# EAGLE library part EDGE_CON_6X (library Bits_library_eagle 9x)
0.5mm Pitch Connectors For FPC/FFC Source: Data sheet <http://www.hirose.co.jp/cataloge_hp/e58605370.pdf>
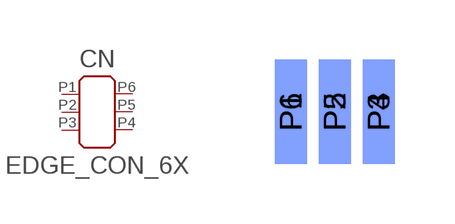
[diagram p26: symbol with the pads of 6P_EDGE; footprint 6P_EDGE]

Designator prefix CN

## EDGE_CON_6X  [6P_EDGE]
P1  P1
P2  P2
P3  P3
P4  P4
P5  P5
P6  P6

## Footprint 6P_EDGE (pad centres in mm)
smd 0.8 x 2.6: P1 -1.1,0; P2 0,0; P3 1.1,0
smd 0.8 x 2.6 bottom: P4 1.1,0; P5 0,0; P6 -1.1,0